# EAGLE library part LC03-6 (library rectifier)
Low Capacitance TSV ( Transient Volatce Suppressor) for High-Speed Data Intrerfaces Source: www.semtech.com .. lc03_6.pdf
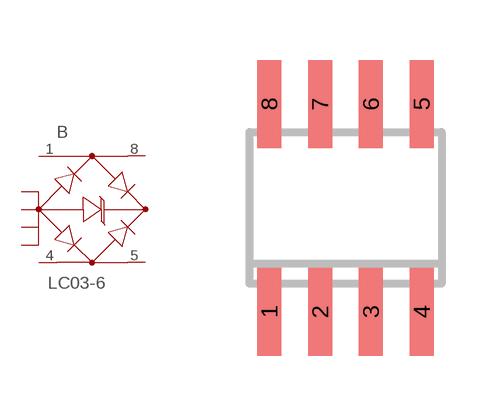
[diagram p0: symbol with the pads of SO08; footprint SO08]

Designator prefix B

## LC03-6  [SO08]
1  IN~1  pas
2  GND~  pas
3  GND~  pas
4  IN~2  pas
5  OUT~2  pas
6  GND~  pas
7  GND~  pas
8  OUT~1  pas

## Footprint SO08 (pad centres in mm)
Land Pattern - SO-8 Source: www.semtech.com .. lc03_6.pdf
smd 0.6 x 2.2: 1 -1.905,-2.6; 2 -0.635,-2.6; 3 0.635,-2.6; 4 1.905,-2.6; 5 1.905,2.6; 6 0.635,2.6; 7 -0.635,2.6; 8 -1.905,2.6